# Altium footprint library LM301B.PcbLib: 1 footprints
Each footprint in its own frame and in the unit in brackets; x right, y up, seen from the top. Pads: shape width x height; smd on the part's side, far side on the other; paste and mask are expansions set on the pad; w line width, h text height; cw(c..) or ccw(c..) is an arc to the next point about the centre after c.
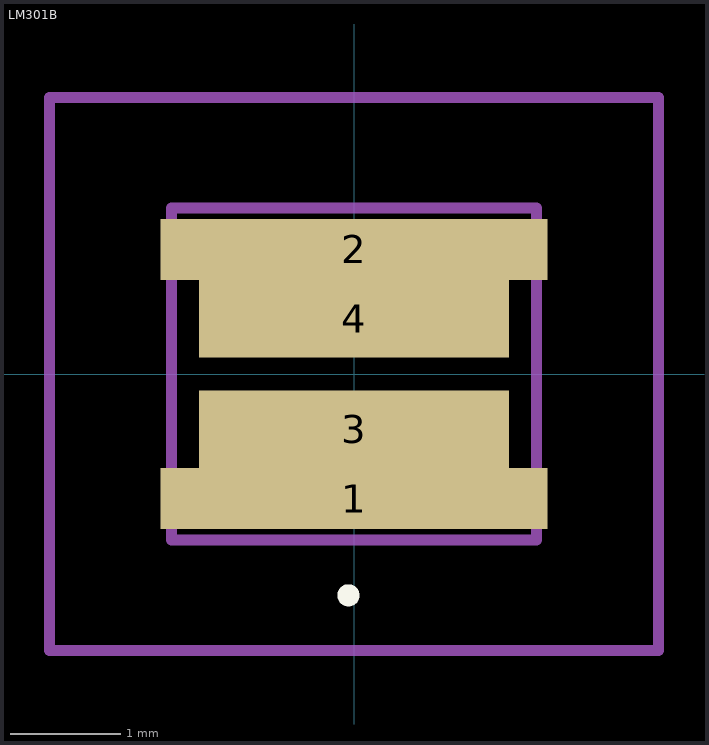
[diagram p0: the footprint, top view; thin cyan lines are the x and y axes]

## LM301B [mm]
pads (4):
  rect 3.5x0.55 smd: 1(0,-1.125) 2(0,1.125)
  rect 2.8x0.7 smd: 3(0,-0.5) 4(0,0.5)
Top Overlay:
  lines w0.1: -0.1,-2 cw(c-0.05,-2) 0,-2 ; -0.1,-2 -0.1,-2 ; -0.1,-2 ccw(c-0.05,-2) 0,-2 ; 0,-2 0,-2
Mechanical 15:
  lines w0.1: -1.65,-1.5 1.65,-1.5 1.65,1.5 -1.65,1.5 -1.65,-1.5
Mechanical 20:
  lines w0.1: -2.75,-2.5 2.75,-2.5 2.75,2.5 -2.75,2.5 -2.75,-2.5